# EAGLE library part NTSX2102GU8H (library NTSX2102GU8H)
NTSX2102 - Dual supply translating transceiver; open drain; auto direction sensing
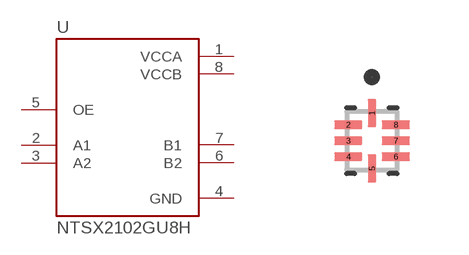
[diagram p0: symbol with the pads of QFN40P140X120X50-8N; footprint QFN40P140X120X50-8N]

Designator prefix U

## NTSX2102GU8H (Description: NTSX2102 - Dual supply translating transceiver; open drain; auto direction sensing; Digi-Key_Part_Number: 568-10216-1-ND; Digi-Key_Purchase_URL: https://www.digikey.com/product-detail/en/nxp-usa-inc/NTSX2102GU8H/568-10216-1-ND/3991872?utm_source=snapeda&utm_medium=aggregator&utm_campaign=symbol; MF: NXP USA; MP: NTSX2102GU8H; Package: XQFN-8 NXP Semiconductors)  [QFN40P140X120X50-8N]
1  VCCA  pwr
2  A1
3  A2
4  GND  pwr
5  OE  in
6  B2
7  B1
8  VCCB  pwr

## Footprint QFN40P140X120X50-8N (pad centres in mm)
smd 0.22 x 0.71: 1 0,0.695; 5 0,-0.695
smd 0.71 x 0.22: 2 -0.595,0.4; 3 -0.595,0; 4 -0.595,-0.4; 6 0.595,-0.4; 7 0.595,0; 8 0.595,0.4